# EAGLE library part TPS62147RGXR (library TPS62147RGXR)
3-17V 2.0A Step-Down Converter with 1% accuracy and PFM/Forced-PWM in 2x3QFN Source: Datasheet <http://www.ti.com/lit/gpn/tps62147>
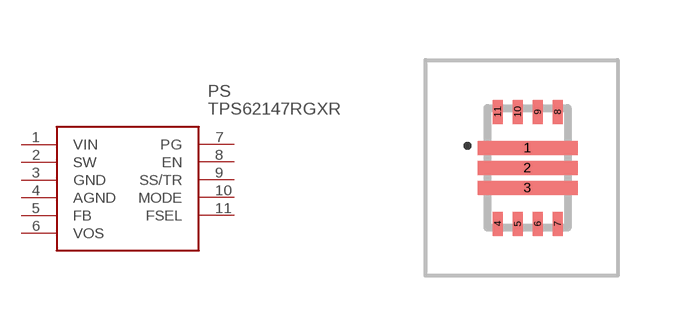
[diagram p0: symbol with the pads of TPS621361RGXT; footprint TPS621361RGXT]

Designator prefix PS

## TPS62147RGXR (Arrow_Part_Number: TPS62147RGXR; Arrow_Price-Stock: https://www.arrow.com/en/products/tps62147rgxr/texas-instruments?region=nac; Description: 3-17V 2.0A Step-Down Converter with 1% accuracy and PFM/Forced-PWM in 2x3QFN; Height: 1mm; Manufacturer_Name: Texas Instruments; Manufacturer_Part_Number: TPS62147RGXR; Mouser_Part_Number: 595-TPS62147RGXR; Mouser_Price-Stock: https://www.mouser.co.uk/ProductDetail/Texas-Instruments/TPS62147RGXR?qs=55YtniHzbhCZLqc4f%2F%2FuZw%3D%3D)  [TPS621361RGXT]
1  VIN
2  SW
3  GND
4  AGND
5  FB
6  VOS
7  PG
8  EN
9  SS/TR
10  MODE
11  FSEL

## Footprint TPS621361RGXT (pad centres in mm)
RGX0011A
smd 2.5 x 0.35: 1 0,0.5; 2 0,0; 3 0,-0.5
smd 0.25 x 0.6: 4 -0.75,-1.4; 5 -0.25,-1.4; 6 0.25,-1.4; 7 0.75,-1.4; 8 0.75,1.4; 9 0.25,1.4; 10 -0.25,1.4; 11 -0.75,1.4